# Altium schematic symbol library INA3221AIRGVR.SchLib: 1 symbol
Pins are listed as number, name and electrical type; pins without a type are passive.

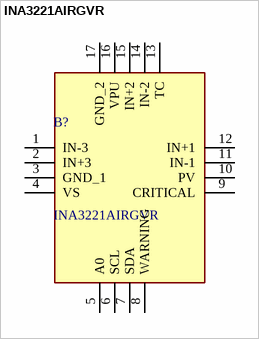
[diagram p0: symbol INA3221AIRGVR]

## INA3221AIRGVR
designator B?
26V, Triple, Bi-Directional, Low-/High-Side, I2C Out Current/Voltage Monitor w/Alerts; Manufacturer_Name: Texas Instruments; Geometry.Height: 1mm; Mouser Part Number: 595-INA3221AIRGVR; Mouser Price/Stock: https://www.mouser.co.uk/ProductDetail/Texas-Instruments/INA3221AIRGVR?qs=3AcK5DacLboHys8907TVUQ%3D%3D; Manufacturer_Part_Number: INA3221AIRGVR; Datasheet Link: http://www.ti.com/lit/ds/symlink/ina3221.pdf
footprint QFN65P400X400X100-17N-D
pins: 1 IN-3, 2 IN+3, 3 GND_1, 4 VS, 5 A0, 6 SCL, 7 SDA, 8 WARNING, 9 CRITICAL, 10 PV, 11 IN-1, 12 IN+1, 13 TC, 14 IN-2, 15 IN+2, 16 VPU, 17 GND_2